# Altium footprint library WR-TBL_Spring Clamp_7.62mm.PcbLib: 43 footprints (part 1 of 3)
Each footprint in its own frame and in the unit in brackets; x right, y up, seen from the top. Pads: shape width x height; smd on the part's side, far side on the other; paste and mask are expansions set on the pad; w line width, h text height; cw(c..) or ccw(c..) is an arc to the next point about the centre after c.
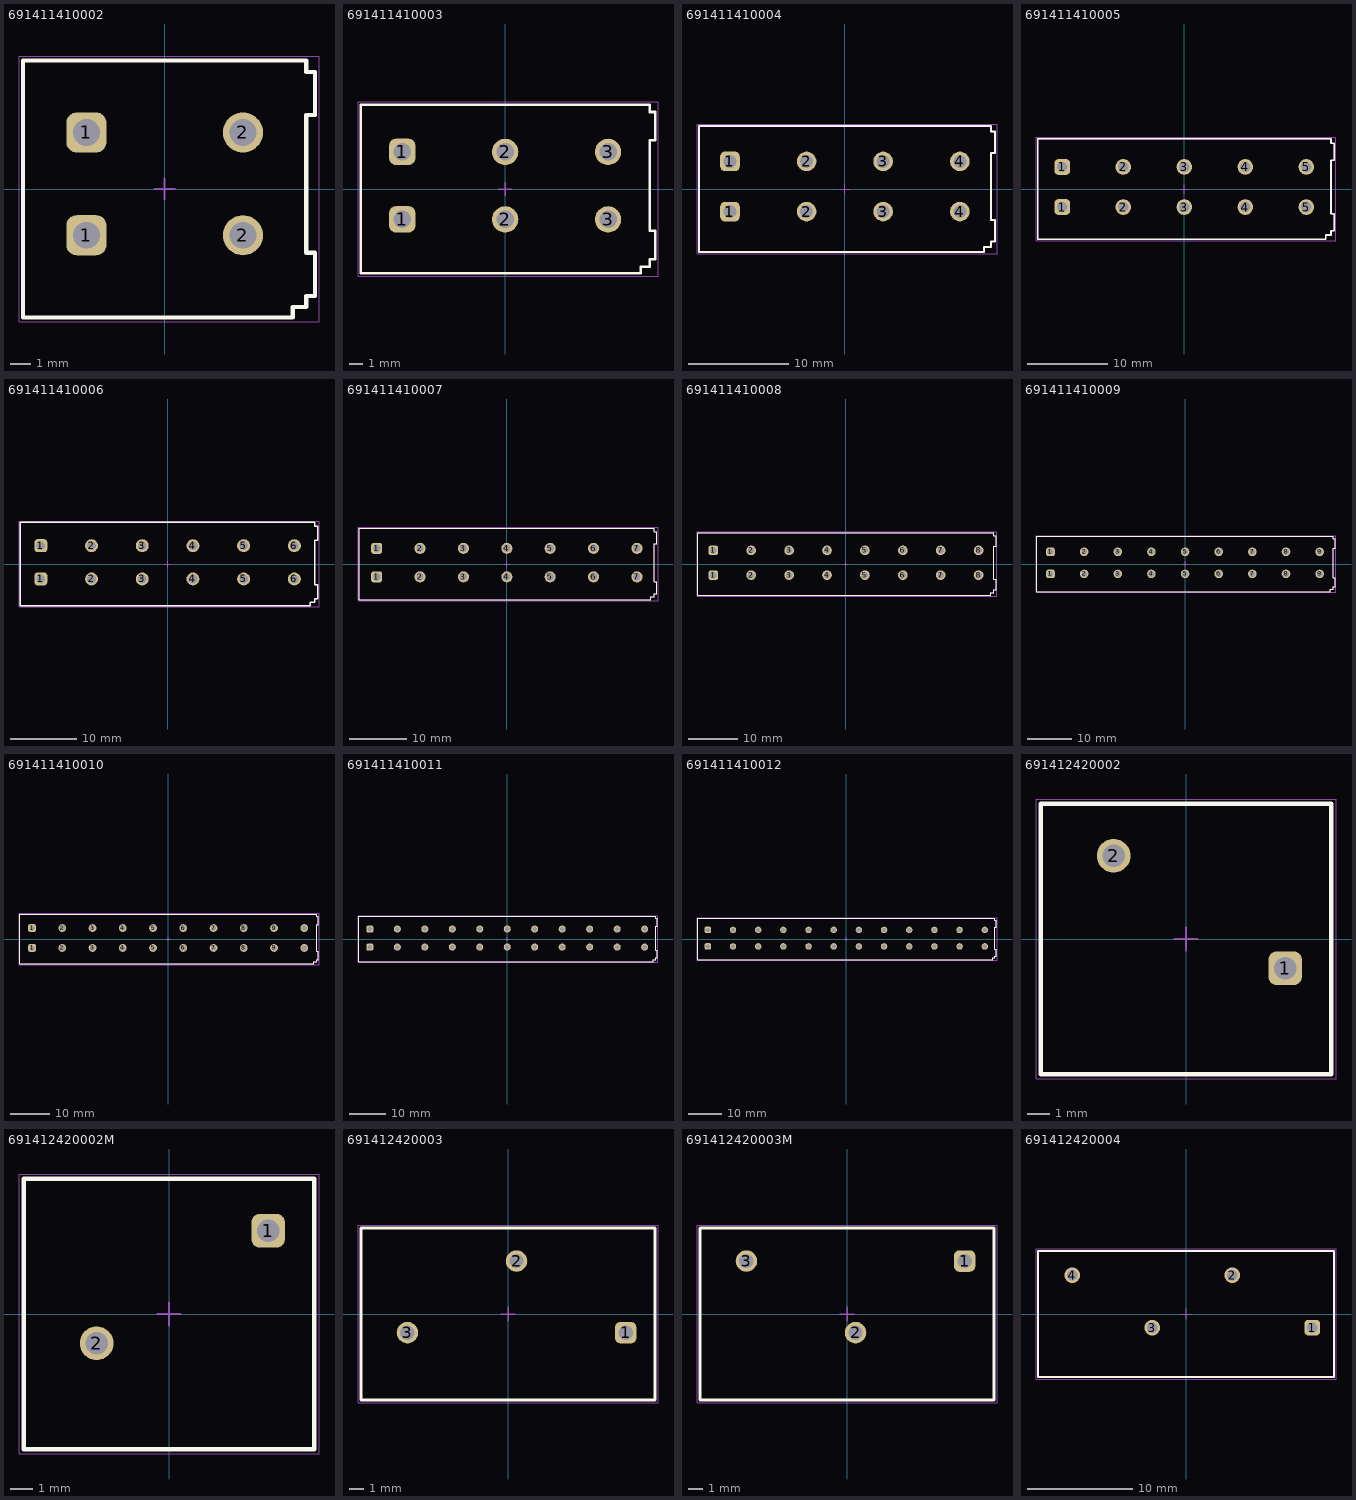
[diagram p0: the footprints below, top view; thin cyan lines are the x and y axes]

## 691411410002 [mm] "7.62 mm Screwless Horizontal Entry, 2p"
height 13.9
pads (4):
  rrect50% 1.95x1.95 hole 1.3: 1(-3.81,-2.25) 1(-3.81,2.75)
  round 1.95 hole 1.3: 2(3.81,-2.25) 2(3.81,2.75)
Top Overlay:
  lines w0.2: -6.89,-6.25 -6.89,6.25 6.89,6.25 6.89,5.7 7.31,5.7 7.31,3.6 6.89,3.6 6.89,-3.1 7.31,-3.1 7.31,-5.2 6.89,-5.2 6.89,-5.75 6.23,-5.75 6.23,-6.25 -6.89,-6.25
Top Assembly:
  lines w0.1: -6.89,-6.25 6.23,-6.25 6.23,-5.75 6.89,-5.75 6.89,-5.2 7.31,-5.2 7.31,-3.1 6.89,-3.1 6.89,3.6 7.31,3.6 7.31,5.7 6.89,5.7 6.89,6.25 -6.89,6.25 -6.89,-6.25
Top Designator:
  text ".Designator" at -3.647,-0.357 h1
Top 3D Body:
  lines w0.1: -6.89,-6.25 -6.89,6.25 6.89,6.25 6.89,5.7 7.31,5.7 7.31,3.6 6.89,3.6 6.89,-3.1 7.31,-3.1 7.31,-5.2 6.89,-5.2 6.89,-5.75 6.23,-5.75 6.23,-6.25 -6.89,-6.25
Top Courtyard:
  lines w0.05: -7.09,-6.45 7.51,-6.45 7.51,6.45 -7.09,6.45 -7.09,-6.45
Top Component Center:
  lines w0.1: -0.5,0 0.5,0 ; 0,-0.5 0,0.5
3D body "691411410002.stp": height 14, standoff -3.5, extent -6.89,-6.25 7.304,6.25

## 691411410003 [mm] "7.62 mm Screwless Horizontal Entry, 3p"
height 13.9
pads (6):
  rrect50% 1.95x1.95 hole 1.3: 1(-7.62,-2.25) 1(-7.62,2.75)
  round 1.95 hole 1.3: 2(0,-2.25) 2(0,2.75) 3(7.62,-2.25) 3(7.62,2.75)
Top Overlay:
  lines w0.2: -10.7,-6.25 -10.7,6.25 10.7,6.25 10.7,5.7 11.12,5.7 11.12,3.6 10.7,3.6 10.7,-3.1 11.12,-3.1 11.12,-5.2 10.7,-5.2 10.7,-5.75 10.04,-5.75 10.04,-6.25 -10.7,-6.25
Top Assembly:
  lines w0.1: -10.7,-6.25 10.04,-6.25 10.04,-5.75 10.7,-5.75 10.7,-5.2 11.12,-5.2 11.12,-3.1 10.7,-3.1 10.7,3.6 11.12,3.6 11.12,5.7 10.7,5.7 10.7,6.25 -10.7,6.25 -10.7,-6.25
Top Designator:
  text ".Designator" at -3.647,-0.357 h1
Top 3D Body:
  lines w0.1: -10.7,-6.25 -10.7,6.25 10.7,6.25 10.7,5.7 11.12,5.7 11.12,3.6 10.7,3.6 10.7,-3.1 11.12,-3.1 11.12,-5.2 10.7,-5.2 10.7,-5.75 10.04,-5.75 10.04,-6.25 -10.7,-6.25
Top Courtyard:
  lines w0.05: -10.9,-6.45 11.32,-6.45 11.32,6.45 -10.9,6.45 -10.9,-6.45
Top Component Center:
  lines w0.1: -0.5,0 0.5,0 ; 0,-0.5 0,0.5
3D body "691411410003.stp": height 14, standoff -3.5, extent -10.7,-6.25 11.111,6.25

## 691411410004 [mm] "7.62 mm Screwless Horizontal Entry, 4p"
height 13.9
pads (8):
  rrect50% 1.95x1.95 hole 1.3: 1(-11.43,-2.25) 1(-11.43,2.75)
  round 1.95 hole 1.3: 2(-3.81,-2.25) 2(-3.81,2.75) 3(3.81,-2.25) 3(3.81,2.75) 4(11.43,-2.25) 4(11.43,2.75)
Top Overlay:
  lines w0.2: -14.51,-6.25 -14.51,6.25 14.51,6.25 14.51,5.7 14.93,5.7 14.93,3.6 14.51,3.6 14.51,-3.1 14.93,-3.1 14.93,-5.2 14.51,-5.2 14.51,-5.75 13.85,-5.75 13.85,-6.25 -14.51,-6.25
Top Assembly:
  lines w0.1: -14.51,-6.25 13.85,-6.25 13.85,-5.75 14.51,-5.75 14.51,-5.2 14.93,-5.2 14.93,-3.1 14.51,-3.1 14.51,3.6 14.93,3.6 14.93,5.7 14.51,5.7 14.51,6.25 -14.51,6.25 -14.51,-6.25
Top Designator:
  text ".Designator" at -3.647,-0.357 h1
Top 3D Body:
  lines w0.1: -14.51,-6.25 -14.51,6.25 14.51,6.25 14.51,5.7 14.93,5.7 14.93,3.6 14.51,3.6 14.51,-3.1 14.93,-3.1 14.93,-5.2 14.51,-5.2 14.51,-5.75 13.85,-5.75 13.85,-6.25 -14.51,-6.25
Top Courtyard:
  lines w0.05: -14.71,-6.45 15.13,-6.45 15.13,6.45 -14.71,6.45 -14.71,-6.45
Top Component Center:
  lines w0.1: -0.5,0 0.5,0 ; 0,-0.5 0,0.5
3D body "691411410004.stp": height 14, standoff -3.5, extent -14.51,-6.25 14.918,6.25

## 691411410005 [mm] "7.62 mm Screwless Horizontal Entry, 5p"
height 13.9
pads (10):
  rrect50% 1.95x1.95 hole 1.3: 1(-15.24,-2.25) 1(-15.24,2.75)
  round 1.95 hole 1.3: 2(-7.62,-2.25) 2(-7.62,2.75) 3(0,-2.25) 3(0,2.75) 4(7.62,-2.25) 4(7.62,2.75) 5(15.24,-2.25) 5(15.24,2.75)
Top Overlay:
  lines w0.2: -18.32,-6.25 17.66,-6.25 17.66,-5.75 18.32,-5.75 18.32,-5.2 18.74,-5.2 18.74,-3.1 18.32,-3.1 18.32,3.6 18.74,3.6 18.74,5.7 18.32,5.7 18.32,6.25 -18.32,6.25 -18.32,-6.25
Top Assembly:
  lines w0.1: -18.32,-6.25 -18.32,6.25 18.32,6.25 18.32,5.7 18.74,5.7 18.74,3.6 18.32,3.6 18.32,-3.1 18.74,-3.1 18.74,-5.2 18.32,-5.2 18.32,-5.75 17.66,-5.75 17.66,-6.25 -18.32,-6.25
Top Designator:
  text ".Designator" at -3.647,-0.357 h1
Top 3D Body:
  lines w0.1: -18.32,-6.25 17.66,-6.25 17.66,-5.75 18.32,-5.75 18.32,-5.2 18.74,-5.2 18.74,-3.1 18.32,-3.1 18.32,3.6 18.74,3.6 18.74,5.7 18.32,5.7 18.32,6.25 -18.32,6.25 -18.32,-6.25
Top Courtyard:
  lines w0.05: -18.52,-6.45 -18.52,6.45 18.94,6.45 18.94,-6.45 -18.52,-6.45
Top Component Center:
  lines w0.1: -0.5,0 0.5,0 ; 0,-0.5 0,0.5
3D body "691411410005.stp": height 14, standoff -3.5, extent -18.32,-6.25 18.724,6.25

## 691411410006 [mm] "7.62 mm Screwless Horizontal Entry, 6p"
height 13.9
pads (12):
  rrect50% 1.95x1.95 hole 1.3: 1(-19.05,-2.25) 1(-19.05,2.75)
  round 1.95 hole 1.3: 2(-11.43,-2.25) 2(-11.43,2.75) 3(-3.81,-2.25) 3(-3.81,2.75) 4(3.81,-2.25) 4(3.81,2.75) 5(11.43,-2.25) 5(11.43,2.75) 6(19.05,-2.25) 6(19.05,2.75)
Top Overlay:
  lines w0.2: -22.13,-6.25 21.47,-6.25 21.47,-5.75 22.13,-5.75 22.13,-5.2 22.55,-5.2 22.55,-3.1 22.13,-3.1 22.13,3.6 22.55,3.6 22.55,5.7 22.13,5.7 22.13,6.25 -22.13,6.25 -22.13,-6.25
Top Assembly:
  lines w0.1: -22.13,-6.25 -22.13,6.25 22.13,6.25 22.13,5.7 22.55,5.7 22.55,3.6 22.13,3.6 22.13,-3.1 22.55,-3.1 22.55,-5.2 22.13,-5.2 22.13,-5.75 21.47,-5.75 21.47,-6.25 -22.13,-6.25
Top Designator:
  text ".Designator" at -3.647,-0.357 h1
Top 3D Body:
  lines w0.1: -22.13,-6.25 21.47,-6.25 21.47,-5.75 22.13,-5.75 22.13,-5.2 22.55,-5.2 22.55,-3.1 22.13,-3.1 22.13,3.6 22.55,3.6 22.55,5.7 22.13,5.7 22.13,6.25 -22.13,6.25 -22.13,-6.25
Top Courtyard:
  lines w0.05: -22.33,-6.45 -22.33,6.45 22.75,6.45 22.75,-6.45 -22.33,-6.45
Top Component Center:
  lines w0.1: -0.5,0 0.5,0 ; 0,-0.5 0,0.5
3D body "691411410006.stp": height 14, standoff -3.5, extent -22.13,-6.25 22.531,6.25

## 691411410007 [mm] "7.62 mm Screwless Horizontal Entry, 7p"
height 13.9
pads (14):
  rrect50% 1.95x1.95 hole 1.3: 1(-22.86,-2.25) 1(-22.86,2.75)
  round 1.95 hole 1.3: 2(-15.24,-2.25) 2(-15.24,2.75) 3(-7.62,-2.25) 3(-7.62,2.75) 4(0,-2.25) 4(0,2.75) 5(7.62,-2.25) 5(7.62,2.75) 6(15.24,-2.25) 6(15.24,2.75) 7(22.86,-2.25) 7(22.86,2.75)
Top Overlay:
  lines w0.2: -25.94,-6.25 -25.94,6.25 25.94,6.25 25.94,5.7 26.36,5.7 26.36,3.6 25.94,3.6 25.94,-3.1 26.36,-3.1 26.36,-5.2 25.94,-5.2 25.94,-5.75 25.28,-5.75 25.28,-6.25 -25.94,-6.25
Top Assembly:
  lines w0.1: -25.94,-6.25 25.28,-6.25 25.28,-5.75 25.94,-5.75 25.94,-5.2 26.36,-5.2 26.36,-3.1 25.94,-3.1 25.94,3.6 26.36,3.6 26.36,5.7 25.94,5.7 25.94,6.25 -25.94,6.25 -25.94,-6.25
Top Designator:
  text ".Designator" at -3.647,-0.357 h1
Top 3D Body:
  lines w0.1: -25.94,-6.25 -25.94,6.25 25.94,6.25 25.94,5.7 26.36,5.7 26.36,3.6 25.94,3.6 25.94,-3.1 26.36,-3.1 26.36,-5.2 25.94,-5.2 25.94,-5.75 25.28,-5.75 25.28,-6.25 -25.94,-6.25
Top Courtyard:
  lines w0.05: -26.14,-6.45 26.56,-6.45 26.56,6.45 -26.14,6.45 -26.14,-6.45
Top Component Center:
  lines w0.1: -0.5,0 0.5,0 ; 0,-0.5 0,0.5
3D body "691411410007.stp": height 14, standoff -3.5, extent -25.94,-6.25 26.337,6.25

## 691411410008 [mm] "7.62 mm Screwless Horizontal Entry, 8p"
height 13.9
pads (16):
  rrect50% 1.95x1.95 hole 1.3: 1(-26.67,-2.25) 1(-26.67,2.75)
  round 1.95 hole 1.3: 2(-19.05,-2.25) 2(-19.05,2.75) 3(-11.43,-2.25) 3(-11.43,2.75) 4(-3.81,-2.25) 4(-3.81,2.75) 5(3.81,-2.25) 5(3.81,2.75) 6(11.43,-2.25) 6(11.43,2.75) 7(19.05,-2.25) 7(19.05,2.75) 8(26.67,-2.25) 8(26.67,2.75)
Top Overlay:
  lines w0.2: -29.75,-6.25 -29.75,6.25 29.75,6.25 29.75,5.7 30.17,5.7 30.17,3.6 29.75,3.6 29.75,-3.1 30.17,-3.1 30.17,-5.2 29.75,-5.2 29.75,-5.75 29.09,-5.75 29.09,-6.25 -29.75,-6.25
Top Assembly:
  lines w0.1: -29.75,-6.25 29.09,-6.25 29.09,-5.75 29.75,-5.75 29.75,-5.2 30.17,-5.2 30.17,-3.1 29.75,-3.1 29.75,3.6 30.17,3.6 30.17,5.7 29.75,5.7 29.75,6.25 -29.75,6.25 -29.75,-6.25
Top Designator:
  text ".Designator" at -3.647,-0.357 h1
Top 3D Body:
  lines w0.1: -29.75,-6.25 -29.75,6.25 29.75,6.25 29.75,5.7 30.17,5.7 30.17,3.6 29.75,3.6 29.75,-3.1 30.17,-3.1 30.17,-5.2 29.75,-5.2 29.75,-5.75 29.09,-5.75 29.09,-6.25 -29.75,-6.25
Top Courtyard:
  lines w0.05: -29.95,-6.45 30.37,-6.45 30.37,6.45 -29.95,6.45 -29.95,-6.45
Top Component Center:
  lines w0.1: -0.5,0 0.5,0 ; 0,-0.5 0,0.5
3D body "691411410008.stp": height 14, standoff -3.5, extent -29.75,-6.25 30.144,6.25

## 691411410009 [mm] "7.62 mm Screwless Horizontal Entry, 9p"
height 13.9
pads (18):
  rrect50% 1.95x1.95 hole 1.3: 1(-30.48,-2.25) 1(-30.48,2.75)
  round 1.95 hole 1.3: 2(-22.86,-2.25) 2(-22.86,2.75) 3(-15.24,-2.25) 3(-15.24,2.75) 4(-7.62,-2.25) 4(-7.62,2.75) 5(0,-2.25) 5(0,2.75) 6(7.62,-2.25) 6(7.62,2.75) 7(15.24,-2.25) 7(15.24,2.75) 8(22.86,-2.25) 8(22.86,2.75) 9(30.48,-2.25) 9(30.48,2.75)
Top Overlay:
  lines w0.2: -33.56,-6.25 -33.56,6.25 33.56,6.25 33.56,5.7 33.98,5.7 33.98,3.6 33.56,3.6 33.56,-3.1 33.98,-3.1 33.98,-5.2 33.56,-5.2 33.56,-5.75 32.9,-5.75 32.9,-6.25 -33.56,-6.25
Top Assembly:
  lines w0.1: -33.56,-6.25 32.9,-6.25 32.9,-5.75 33.56,-5.75 33.56,-5.2 33.98,-5.2 33.98,-3.1 33.56,-3.1 33.56,3.6 33.98,3.6 33.98,5.7 33.56,5.7 33.56,6.25 -33.56,6.25 -33.56,-6.25
Top Designator:
  text ".Designator" at -3.647,-0.357 h1
Top 3D Body:
  lines w0.1: -33.56,-6.25 -33.56,6.25 33.56,6.25 33.56,5.7 33.98,5.7 33.98,3.6 33.56,3.6 33.56,-3.1 33.98,-3.1 33.98,-5.2 33.56,-5.2 33.56,-5.75 32.9,-5.75 32.9,-6.25 -33.56,-6.25
Top Courtyard:
  lines w0.05: -33.76,-6.45 34.18,-6.45 34.18,6.45 -33.76,6.45 -33.76,-6.45
Top Component Center:
  lines w0.1: -0.5,0 0.5,0 ; 0,-0.5 0,0.5
3D body "691411410009.stp": height 14, standoff -3.5, extent -33.56,-6.25 33.951,6.25

## 691411410010 [mm] "7.62 mm Screwless Horizontal Entry, 10p"
height 13.9
pads (20):
  rrect50% 1.95x1.95 hole 1.3: 1(-34.29,-2.25) 1(-34.29,2.75)
  round 1.95 hole 1.3: 2(-26.67,-2.25) 2(-26.67,2.75) 3(-19.05,-2.25) 3(-19.05,2.75) 4(-11.43,-2.25) 4(-11.43,2.75) 5(-3.81,-2.25) 5(-3.81,2.75) 6(3.81,-2.25) 6(3.81,2.75) 7(11.43,-2.25) 7(11.43,2.75) 8(19.05,-2.25) 8(19.05,2.75) 9(26.67,-2.25) 9(26.67,2.75) 10(34.29,-2.25) 10(34.29,2.75)
Top Overlay:
  lines w0.2: -37.37,-6.25 36.71,-6.25 36.71,-5.75 37.37,-5.75 37.37,-5.2 37.79,-5.2 37.79,-3.1 37.37,-3.1 37.37,3.6 37.79,3.6 37.79,5.7 37.37,5.7 37.37,6.25 -37.37,6.25 -37.37,-6.25
Top Assembly:
  lines w0.1: -37.37,-6.25 -37.37,6.25 37.37,6.25 37.37,5.7 37.79,5.7 37.79,3.6 37.37,3.6 37.37,-3.1 37.79,-3.1 37.79,-5.2 37.37,-5.2 37.37,-5.75 36.71,-5.75 36.71,-6.25 -37.37,-6.25
Top Designator:
  text ".Designator" at -3.647,-0.357 h1
Top 3D Body:
  lines w0.1: -37.37,-6.25 36.71,-6.25 36.71,-5.75 37.37,-5.75 37.37,-5.2 37.79,-5.2 37.79,-3.1 37.37,-3.1 37.37,3.6 37.79,3.6 37.79,5.7 37.37,5.7 37.37,6.25 -37.37,6.25 -37.37,-6.25
Top Courtyard:
  lines w0.05: -37.57,-6.45 -37.57,6.45 37.99,6.45 37.99,-6.45 -37.57,-6.45
Top Component Center:
  lines w0.1: -0.5,0 0.5,0 ; 0,-0.5 0,0.5
3D body "691411410010.stp": height 14, standoff -3.5, extent -37.37,-6.25 37.757,6.25

## 691411410011 [mm] "7.62 mm Screwless Horizontal Entry, 11p"
height 13.9
pads (22):
  rrect50% 1.95x1.95 hole 1.3: 1(-38.1,-2.25) 1(-38.1,2.75)
  round 1.95 hole 1.3: 2(-30.48,-2.25) 2(-30.48,2.75) 3(-22.86,-2.25) 3(-22.86,2.75) 4(-15.24,-2.25) 4(-15.24,2.75) 5(-7.62,-2.25) 5(-7.62,2.75) 6(0,-2.25) 6(0,2.75) 7(7.62,-2.25) 7(7.62,2.75) 8(15.24,-2.25) 8(15.24,2.75) 9(22.86,-2.25) 9(22.86,2.75) 10(30.48,-2.25) 10(30.48,2.75) 11(38.1,-2.25) 11(38.1,2.75)
Top Overlay:
  lines w0.2: -41.18,-6.25 40.52,-6.25 40.52,-5.75 41.18,-5.75 41.18,-5.2 41.6,-5.2 41.6,-3.1 41.18,-3.1 41.18,3.6 41.6,3.6 41.6,5.7 41.18,5.7 41.18,6.25 -41.18,6.25 -41.18,-6.25
Top Assembly:
  lines w0.1: -41.18,-6.25 -41.18,6.25 41.18,6.25 41.18,5.7 41.6,5.7 41.6,3.6 41.18,3.6 41.18,-3.1 41.6,-3.1 41.6,-5.2 41.18,-5.2 41.18,-5.75 40.52,-5.75 40.52,-6.25 -41.18,-6.25
Top Designator:
  text ".Designator" at -3.647,-0.357 h1
Top 3D Body:
  lines w0.1: -41.18,-6.25 40.52,-6.25 40.52,-5.75 41.18,-5.75 41.18,-5.2 41.6,-5.2 41.6,-3.1 41.18,-3.1 41.18,3.6 41.6,3.6 41.6,5.7 41.18,5.7 41.18,6.25 -41.18,6.25 -41.18,-6.25
Top Courtyard:
  lines w0.05: -41.38,-6.45 -41.38,6.45 41.8,6.45 41.8,-6.45 -41.38,-6.45
Top Component Center:
  lines w0.1: -0.5,0 0.5,0 ; 0,-0.5 0,0.5
3D body "691411410011.stp": height 14, standoff -3.5, extent -41.18,-6.25 41.564,6.25

## 691411410012 [mm] "7.62 mm Screwless Horizontal Entry, 12p"
height 13.9
pads (24):
  rrect50% 1.95x1.95 hole 1.3: 1(-41.91,-2.25) 1(-41.91,2.75)
  round 1.95 hole 1.3: 2(-34.29,-2.25) 2(-34.29,2.75) 3(-26.67,-2.25) 3(-26.67,2.75) 4(-19.05,-2.25) 4(-19.05,2.75) 5(-11.43,-2.25) 5(-11.43,2.75) 6(-3.81,-2.25) 6(-3.81,2.75) 7(3.81,-2.25) 7(3.81,2.75) 8(11.43,-2.25) 8(11.43,2.75) 9(19.05,-2.25) 9(19.05,2.75) 10(26.67,-2.25) 10(26.67,2.75) 11(34.29,-2.25) 11(34.29,2.75) 12(41.91,-2.25) 12(41.91,2.75)
Top Overlay:
  lines w0.2: -44.99,-6.25 -44.99,6.25 44.99,6.25 44.99,5.7 45.41,5.7 45.41,3.6 44.99,3.6 44.99,-3.1 45.41,-3.1 45.41,-5.2 44.99,-5.2 44.99,-5.75 44.33,-5.75 44.33,-6.25 -44.99,-6.25
Top Assembly:
  lines w0.1: -44.99,-6.25 44.33,-6.25 44.33,-5.75 44.99,-5.75 44.99,-5.2 45.41,-5.2 45.41,-3.1 44.99,-3.1 44.99,3.6 45.41,3.6 45.41,5.7 44.99,5.7 44.99,6.25 -44.99,6.25 -44.99,-6.25
Top Designator:
  text ".Designator" at -3.647,-0.357 h1
Top 3D Body:
  lines w0.1: -44.99,-6.25 -44.99,6.25 44.99,6.25 44.99,5.7 45.41,5.7 45.41,3.6 44.99,3.6 44.99,-3.1 45.41,-3.1 45.41,-5.2 44.99,-5.2 44.99,-5.75 44.33,-5.75 44.33,-6.25 -44.99,-6.25
Top Courtyard:
  lines w0.05: -45.19,-6.45 45.61,-6.45 45.61,6.45 -45.19,6.45 -45.19,-6.45
Top Component Center:
  lines w0.1: -0.5,0 0.5,0 ; 0,-0.5 0,0.5
3D body "691411410012.stp": height 14, standoff -3.5, extent -44.99,-6.25 45.37,6.25

## 691412420002 [mm] "7.62mm 45deg Cable Entry Screwless, 2p"
height 13.2
pads (2):
  rrect50% 1.5x1.5 hole 1: 1(4.405,-1.3)
  round 1.5 hole 1: 2(-3.215,3.7)
Top Overlay:
  lines w0.2: -6.465,-6 -6.465,6 6.465,6 6.465,-6 -6.465,-6
Top Assembly:
  lines w0.1: -6.465,-6 6.465,-6 6.465,6 -6.465,6 -6.465,-6
Top Designator:
  text ".Designator" at -3.647,-0.357 h1
Top 3D Body:
  lines w0.1: -6.465,-6 -6.465,6 6.465,6 6.465,-6 -6.465,-6
Top Courtyard:
  lines w0.05: -6.665,-6.2 -6.665,6.2 6.665,6.2 6.665,-6.2 -6.665,-6.2
Top Component Center:
  lines w0.1: -0.5,0 0.5,0 ; 0,-0.5 0,0.5
3D body "691412420002.stp": height 13.28, standoff -3.52, extent -6.465,-6 6.465,6

## 691412420002M [mm] "7.62 mm Screwless 45deg Entry, 2p"
height 13.2
pads (2):
  rrect50% 1.5x1.5 hole 1: 1(4.405,3.7)
  round 1.5 hole 1: 2(-3.215,-1.3)
Top Overlay:
  lines w0.2: -6.465,-6 6.465,-6 6.465,6 -6.465,6 -6.465,-6
Top Assembly:
  lines w0.1: -6.465,-6 -6.465,6 6.465,6 6.465,-6 -6.465,-6
Top Designator:
  text ".Designator" at -3.647,-0.357 h1
Top 3D Body:
  lines w0.1: -6.465,-6 6.465,-6 6.465,6 -6.465,6 -6.465,-6
Top Courtyard:
  lines w0.05: -6.665,-6.2 6.665,-6.2 6.665,6.2 -6.665,6.2 -6.665,-6.2
Top Component Center:
  lines w0.1: -0.5,0 0.5,0 ; 0,-0.5 0,0.5
3D body "691412420002M.stp": height 13.28, standoff -3.52, extent -6.465,-6 6.465,6

## 691412420003 [mm] "7.62mm 45deg Cable Entry Screwless, 3p"
height 13.2
pads (3):
  rrect50% 1.5x1.5 hole 1: 1(8.215,-1.3)
  round 1.5 hole 1: 2(0.595,3.7) 3(-7.025,-1.3)
Top Overlay:
  lines w0.2: -10.275,-6 -10.275,6 10.275,6 10.275,-6 -10.275,-6
Top Assembly:
  lines w0.1: -10.275,-6 10.275,-6 10.275,6 -10.275,6 -10.275,-6
Top Designator:
  text ".Designator" at -3.647,-0.357 h1
Top 3D Body:
  lines w0.1: -10.275,-6 -10.275,6 10.275,6 10.275,-6 -10.275,-6
Top Courtyard:
  lines w0.05: -10.475,-6.2 -10.475,6.2 10.475,6.2 10.475,-6.2 -10.475,-6.2
Top Component Center:
  lines w0.1: -0.5,0 0.5,0 ; 0,-0.5 0,0.5
3D body "691412420003.stp": height 13.28, standoff -3.52, extent -10.275,-6 10.275,6

## 691412420003M [mm] "7.62 mm Screwless 45deg Entry, 3p"
height 13.2
pads (3):
  rrect50% 1.5x1.5 hole 1: 1(8.215,3.7)
  round 1.5 hole 1: 2(0.595,-1.3) 3(-7.025,3.7)
Top Overlay:
  lines w0.2: -10.275,-6 10.275,-6 10.275,6 -10.275,6 -10.275,-6
Top Assembly:
  lines w0.1: -10.275,-6 -10.275,6 10.275,6 10.275,-6 -10.275,-6
Top Designator:
  text ".Designator" at -3.647,-0.357 h1
Top 3D Body:
  lines w0.1: -10.275,-6 10.275,-6 10.275,6 -10.275,6 -10.275,-6
Top Courtyard:
  lines w0.05: -10.475,-6.2 10.475,-6.2 10.475,6.2 -10.475,6.2 -10.475,-6.2
Top Component Center:
  lines w0.1: -0.5,0 0.5,0 ; 0,-0.5 0,0.5
3D body "691412420003M.stp": height 13.28, standoff -3.52, extent -10.275,-6 10.275,6

## 691412420004 [mm] "7.62mm 45deg Cable Entry Screwless, 4p"
height 13.2
pads (4):
  rrect50% 1.5x1.5 hole 1: 1(12.025,-1.3)
  round 1.5 hole 1: 2(4.405,3.7) 3(-3.215,-1.3) 4(-10.835,3.7)
Top Overlay:
  lines w0.2: -14.085,-6 14.085,-6 14.085,6 -14.085,6 -14.085,-6
Top Assembly:
  lines w0.1: -14.085,-6 -14.085,6 14.085,6 14.085,-6 -14.085,-6
Top Designator:
  text ".Designator" at -3.647,-0.357 h1
Top 3D Body:
  lines w0.1: -14.085,-6 14.085,-6 14.085,6 -14.085,6 -14.085,-6
Top Courtyard:
  lines w0.05: -14.285,-6.2 14.285,-6.2 14.285,6.2 -14.285,6.2 -14.285,-6.2
Top Component Center:
  lines w0.1: -0.5,0 0.5,0 ; 0,-0.5 0,0.5
3D body "691412420004.stp": height 13.28, standoff -3.52, extent -14.085,-6 14.085,6